# Altium schematic symbol library HEADER_1x9.Schlib: 1 symbol
Pins are listed as number, name and electrical type; pins without a type are passive.

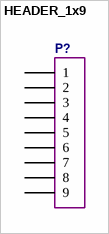
[diagram p0: symbol HEADER_1x9]

## HEADER_1x9
designator P?  (value not drawn)
Header, 9-Pin
pins: 1, 2, 3, 4, 5, 6, 7, 8, 9